# Altium schematic symbol library Y_4pin-gnd23.SchLib: 1 symbol
Pins are listed as number, name and electrical type; pins without a type are passive.

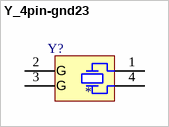
[diagram p0: symbol Y_4pin-gnd23]

## Y_4pin-gnd23
designator Y?
pins: 1, 2 GND (power), 3 GND (power), 4
1 alternate drawing of the same symbol
text: G